# Altium integrated library Infineon_Microcontroller.IntLib: 721 symbols (part 3 of 66)
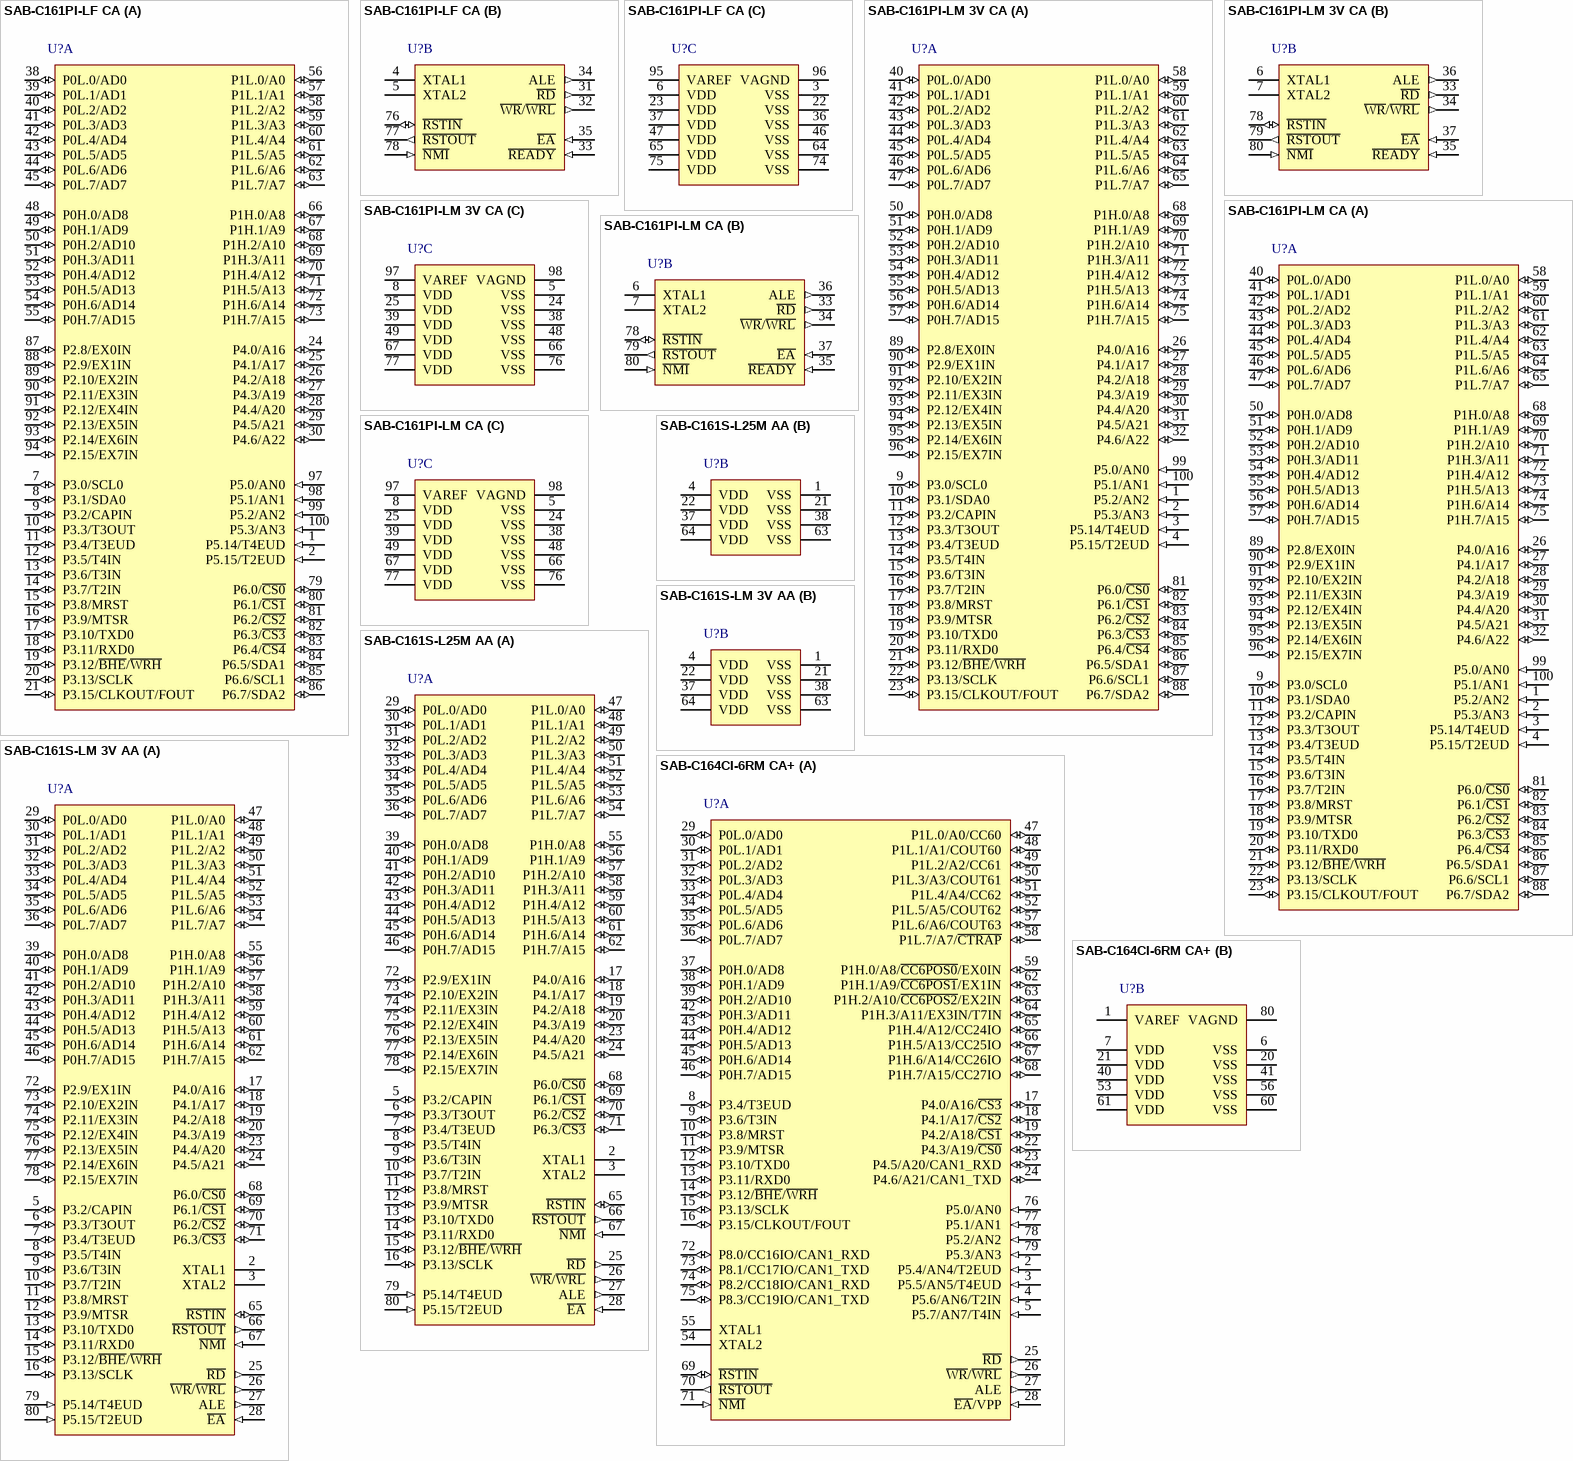
[diagram p120: symbols SAB-C161PI-LF CA to SAB-C164CI-6RM CA+]

## SAB-C161S-L25M AA
designator U?
25 MHz C166 MCU without Program Memory, 2 KByte SRAM, 5 V, 0 to 70 degC, PG-MQFP-80, Reel, Green; Manufacturer: Infineon; PartNumber: SAB-C161S-L25M AA; A / D input lines (incl. FADC): 0; Digital I/O Lines: 63; DSP functionality (e.g MDU/MAC): TRUE; I/O Operation Voltages: 5 V; Instruction width [bits]: 16; Max Clock Frequency: 25 MHz; Power Modes: 3; Serial I/O Interfaces: 2; SRAM (incl. Cache): 2 KByte; Timer / Counter: 5; Type of Memory: ROM less; Type of Serial I/O Interfaces: ASC(1), SSC(1); DatasheetVersion: Rev. 1.0; PackageVersion: V2.0, 05/2001; PackageReference: P-MQFP-80-7; PackageDescription: 80-Pin Plastic Metric Quad Flat Package, Body 14 x 14 mm, Pitch 0.65 mm; Supplier 1: Mouser; Supplier Part Number 1: 726-SABC161SL25MAA; Supplier 2: Digi-Key; Supplier Part Number 2: SAB-C161S-L25M AA-ND; CAN Nodes: 0; DMA Channels: 0; External Bus interface: TRUE; Green: TRUE; Halogen-free: TRUE; Number of ADC Modules: 0; Oscillator Watchdog: TRUE; Packing: Reel; Real Time Clock (RTC): TRUE; Timed I/O Pins (PWM-Ch,CAPCOM): 0; Watchdog Timer: TRUE; Mounting Technology: Surface Mount; ComponentLink1Description: Manufacturer URL; ComponentLink1URL: http://www.infineon.com/; ComponentLink2Description: Datasheet; ComponentLink2URL: http://www.infineon.com/dgdl/c161s_ds_v1.0_200311.pdf?folderId=db3a304412b407950112b43a56c8703a&fileId=db3a304412b407950112b43a5758703b; ComponentLink3Description: Package Specification; ComponentLink3URL: http://www.infineon.com/dgdl/c164ci_ds_v2.0_2001_05_1.pdf?folderId=db3a304412b407950112b408e8c90004&fileId=db3a304412b407950112b41e161331d0&sId=db3a30433d956bc3013d9b13f66314ac
footprint INF-P-MQFP-80-7_N (QFP, 80-Leads, Body 14x14mm, Pitch 0.65mm, IPC Medium Density)
footprint INF-P-MQFP-80-7_L (QFP, 80-Leads, Body 14x14mm, Pitch 0.65mm, IPC High Density)
footprint INF-P-MQFP-80-7_M (QFP, 80-Leads, Body 14x14mm, Pitch 0.65mm, IPC Low Density)
part A pins: 2 XTAL1 "Input to the oscillator amplifier and input to the internal clock generator", 3 XTAL2 "Output of the oscillator amplifier circuit.", 5 P3.2/CAPIN (io), 6 P3.3/T3OUT (io), 7 P3.4/T3EUD (io), 8 P3.5/T4IN (io), 9 P3.6/T3IN (io), 10 P3.7/T2IN (io), 11 P3.8/MRST (io), 12 P3.9/MTSR (io), 13 P3.10/TXD0 (io), 14 P3.11/RXD0 (io), 15 P3.12/~{BHE}/~{WRH} (io), 16 P3.13/SCLK (io), 17 P4.0/A16 (io), 18 P4.1/A17 (io), 19 P4.2/A18 (io), 20 P4.3/A19 (io), 23 P4.4/A20 (io), 24 P4.5/A21 (io), 25 ~{RD} (out) "External Memory Read Strobe. R\D\ is activated for every external instruction or data read access.", 26 ~{WR}/~{WRL} (out) "External Memory Write Strobe. In W\R\-mode this pin is activated for every external data write access. In W\R\L\-mode this pin is activated for low byte data write accesses on a 16-bit bus, and for every data write access on (See Datasheet)", 27 ALE (out) "Address Latch Enable Output. Can be used for latching the address into external memory or an address latch in the multiplexed bus modes.", 28 ~{EA} (in) "External Access Enable pin. A low level at this pin during and after Reset forces the C161K/O to begin instruction execution out of external memory. A high level forces execution out of the internal program memory. (See Datasheet)", 29 P0L.0/AD0 (io), 30 P0L.1/AD1 (io), 31 P0L.2/AD2 (io), 32 P0L.3/AD3 (io), 33 P0L.4/AD4 (io), 34 P0L.5/AD5 (io), 35 P0L.6/AD6 (io), 36 P0L.7/AD7 (io), 39 P0H.0/AD8 (io), 40 P0H.1/AD9 (io), 41 P0H.2/AD10 (io), 42 P0H.3/AD11 (io), 43 P0H.4/AD12 (io), 44 P0H.5/AD13 (io), 45 P0H.6/AD14 (io), 46 P0H.7/AD15 (io), 47 P1L.0/A0 (io), 48 P1L.1/A1 (io), 49 P1L.2/A2 (io), 50 P1L.3/A3 (io), 51 P1L.4/A4 (io), 52 P1L.5/A5 (io), 53 P1L.6/A6 (io), 54 P1L.7/A7 (io), 55 P1H.0/A8 (io), 56 P1H.1/A9 (io), 57 P1H.2/A10 (io), 58 P1H.3/A11 (io), 59 P1H.4/A12 (io), 60 P1H.5/A13 (io), 61 P1H.6/A14 (io), 62 P1H.7/A15 (io), 65 ~{RSTIN} (io) "Reset Input with Schmitt-Trigger characteristics. A low level at this pin while the oscillator is running resets the C161K/O. An internal pullup resistor permits power-on reset using only a capacitor connected to VSS. A (See Datasheet)", 66 ~{RSTOUT} (out) "Internal Reset Indication Output. This pin is set to a low level when the part is executing either a hardware-, a software- or a watchdog timer reset. R\S\T\O\U\T\ remains low until the EINIT (end of initialization) (See Datasheet)", 67 ~{NMI} (in) "Non-Maskable Interrupt Input. A high to low transition at this pin causes the CPU to vector to the NMI trap routine. When the PWRDN (power down) instruction is executed, the N\M\I\ pin must be low in order to force the (See Datasheet)", 68 P6.0/~{CS0} (io), 69 P6.1/~{CS1} (io), 70 P6.2/~{CS2} (io), 71 P6.3/~{CS3} (io), 72 P2.9/EX1IN (io), 73 P2.10/EX2IN (io), 74 P2.11/EX3IN (io), 75 P2.12/EX4IN (io), 76 P2.13/EX5IN (io), 77 P2.14/EX6IN (io), 78 P2.15/EX7IN (io), 79 P5.14/T4EUD (in), 80 P5.15/T2EUD (in)
part B pins: 1 VSS (power) "Digital Ground.", 4 VDD (power) "Digital Supply Voltage: + 5 V during normal operation and idle mode.+ 3.3 V during reduced supply operation and idle mode.>= 2.5 V during power down mode.", 21 VSS (power) "Digital Ground.", 22 VDD (power) "Digital Supply Voltage: + 5 V during normal operation and idle mode.+ 3.3 V during reduced supply operation and idle mode.>= 2.5 V during power down mode.", 37 VDD (power) "Digital Supply Voltage: + 5 V during normal operation and idle mode.+ 3.3 V during reduced supply operation and idle mode.>= 2.5 V during power down mode.", 38 VSS (power) "Digital Ground.", 63 VSS (power) "Digital Ground.", 64 VDD (power) "Digital Supply Voltage: + 5 V during normal operation and idle mode.+ 3.3 V during reduced supply operation and idle mode.>= 2.5 V during power down mode."

## SAB-C161S-LM 3V AA
designator U?
20 MHz C166 MCU without Program Memory, 2 KByte SRAM, 3.3 V, 0 to 70 degC, PG-MQFP-80, Reel, Green; Manufacturer: Infineon; PartNumber: SAB-C161S-LM 3V AA; A / D input lines (incl. FADC): 0; Digital I/O Lines: 63; DSP functionality (e.g MDU/MAC): TRUE; I/O Operation Voltages: 3.3 V; Instruction width [bits]: 16; Max Clock Frequency: 20 MHz; Power Modes: 3; Serial I/O Interfaces: 2; SRAM (incl. Cache): 2 KByte; Timer / Counter: 5; Type of Memory: ROM less; Type of Serial I/O Interfaces: ASC(1), SSC(1); DatasheetVersion: Rev. 1.0; PackageVersion: V2.0, 05/2001; PackageReference: P-MQFP-80-7; PackageDescription: 80-Pin Plastic Metric Quad Flat Package, Body 14 x 14 mm, Pitch 0.65 mm; Supplier 1: Digi-Key; Supplier Part Number 1: SAB-C161S-LM 3V AA-ND; CAN Nodes: 0; DMA Channels: 0; External Bus interface: TRUE; Green: TRUE; Halogen-free: TRUE; Number of ADC Modules: 0; Oscillator Watchdog: TRUE; Packing: Reel; Real Time Clock (RTC): TRUE; Timed I/O Pins (PWM-Ch,CAPCOM): 0; Watchdog Timer: TRUE; Mounting Technology: Surface Mount; ComponentLink1Description: Manufacturer URL; ComponentLink1URL: http://www.infineon.com/; ComponentLink2Description: Datasheet; ComponentLink2URL: http://www.infineon.com/dgdl/c161s_ds_v1.0_200311.pdf?folderId=db3a304412b407950112b41d58622ffd&fileId=db3a304412b407950112b41d58bb2ffe; ComponentLink3Description: Package Specification; ComponentLink3URL: http://www.infineon.com/dgdl/c164ci_ds_v2.0_2001_05_1.pdf?folderId=db3a304412b407950112b408e8c90004&fileId=db3a304412b407950112b41e161331d0&sId=db3a30433d956bc3013d9b13f66314ac
footprint INF-P-MQFP-80-7_N (QFP, 80-Leads, Body 14x14mm, Pitch 0.65mm, IPC Medium Density)
footprint INF-P-MQFP-80-7_L (QFP, 80-Leads, Body 14x14mm, Pitch 0.65mm, IPC High Density)
footprint INF-P-MQFP-80-7_M (QFP, 80-Leads, Body 14x14mm, Pitch 0.65mm, IPC Low Density)
part A pins: 2 XTAL1 "Input to the oscillator amplifier and input to the internal clock generator", 3 XTAL2 "Output of the oscillator amplifier circuit.", 5 P3.2/CAPIN (io), 6 P3.3/T3OUT (io), 7 P3.4/T3EUD (io), 8 P3.5/T4IN (io), 9 P3.6/T3IN (io), 10 P3.7/T2IN (io), 11 P3.8/MRST (io), 12 P3.9/MTSR (io), 13 P3.10/TXD0 (io), 14 P3.11/RXD0 (io), 15 P3.12/~{BHE}/~{WRH} (io), 16 P3.13/SCLK (io), 17 P4.0/A16 (io), 18 P4.1/A17 (io), 19 P4.2/A18 (io), 20 P4.3/A19 (io), 23 P4.4/A20 (io), 24 P4.5/A21 (io), 25 ~{RD} (out) "External Memory Read Strobe. R\D\ is activated for every external instruction or data read access.", 26 ~{WR}/~{WRL} (out) "External Memory Write Strobe. In W\R\-mode this pin is activated for every external data write access. In W\R\L\-mode this pin is activated for low byte data write accesses on a 16-bit bus, and for every data write access on (See Datasheet)", 27 ALE (out) "Address Latch Enable Output. Can be used for latching the address into external memory or an address latch in the multiplexed bus modes.", 28 ~{EA} (in) "External Access Enable pin. A low level at this pin during and after Reset forces the C161K/O to begin instruction execution out of external memory. A high level forces execution out of the internal program memory. (See Datasheet)", 29 P0L.0/AD0 (io), 30 P0L.1/AD1 (io), 31 P0L.2/AD2 (io), 32 P0L.3/AD3 (io), 33 P0L.4/AD4 (io), 34 P0L.5/AD5 (io), 35 P0L.6/AD6 (io), 36 P0L.7/AD7 (io), 39 P0H.0/AD8 (io), 40 P0H.1/AD9 (io), 41 P0H.2/AD10 (io), 42 P0H.3/AD11 (io), 43 P0H.4/AD12 (io), 44 P0H.5/AD13 (io), 45 P0H.6/AD14 (io), 46 P0H.7/AD15 (io), 47 P1L.0/A0 (io), 48 P1L.1/A1 (io), 49 P1L.2/A2 (io), 50 P1L.3/A3 (io), 51 P1L.4/A4 (io), 52 P1L.5/A5 (io), 53 P1L.6/A6 (io), 54 P1L.7/A7 (io), 55 P1H.0/A8 (io), 56 P1H.1/A9 (io), 57 P1H.2/A10 (io), 58 P1H.3/A11 (io), 59 P1H.4/A12 (io), 60 P1H.5/A13 (io), 61 P1H.6/A14 (io), 62 P1H.7/A15 (io), 65 ~{RSTIN} (io) "Reset Input with Schmitt-Trigger characteristics. A low level at this pin while the oscillator is running resets the C161K/O. An internal pullup resistor permits power-on reset using only a capacitor connected to VSS. A (See Datasheet)", 66 ~{RSTOUT} (out) "Internal Reset Indication Output. This pin is set to a low level when the part is executing either a hardware-, a software- or a watchdog timer reset. R\S\T\O\U\T\ remains low until the EINIT (end of initialization) (See Datasheet)", 67 ~{NMI} (in) "Non-Maskable Interrupt Input. A high to low transition at this pin causes the CPU to vector to the NMI trap routine. When the PWRDN (power down) instruction is executed, the N\M\I\ pin must be low in order to force the (See Datasheet)", 68 P6.0/~{CS0} (io), 69 P6.1/~{CS1} (io), 70 P6.2/~{CS2} (io), 71 P6.3/~{CS3} (io), 72 P2.9/EX1IN (io), 73 P2.10/EX2IN (io), 74 P2.11/EX3IN (io), 75 P2.12/EX4IN (io), 76 P2.13/EX5IN (io), 77 P2.14/EX6IN (io), 78 P2.15/EX7IN (io), 79 P5.14/T4EUD (in), 80 P5.15/T2EUD (in)
part B pins: 1 VSS (power) "Digital Ground.", 4 VDD (power) "Digital Supply Voltage: + 5 V during normal operation and idle mode.+ 3.3 V during reduced supply operation and idle mode.>= 2.5 V during power down mode.", 21 VSS (power) "Digital Ground.", 22 VDD (power) "Digital Supply Voltage: + 5 V during normal operation and idle mode.+ 3.3 V during reduced supply operation and idle mode.>= 2.5 V during power down mode.", 37 VDD (power) "Digital Supply Voltage: + 5 V during normal operation and idle mode.+ 3.3 V during reduced supply operation and idle mode.>= 2.5 V during power down mode.", 38 VSS (power) "Digital Ground.", 63 VSS (power) "Digital Ground.", 64 VDD (power) "Digital Supply Voltage: + 5 V during normal operation and idle mode.+ 3.3 V during reduced supply operation and idle mode.>= 2.5 V during power down mode."

## SAB-C164CI-6RM CA+
designator U?
20 MHz C166 MCU with 48 KByte Program Memory, 4 KByte SRAM, 5 V, 0 to 70 degC, PG-MQFP-80, Green; Manufacturer: Infineon; PartNumber: SAB-C164CI-6RM CA+; A / D input lines (incl. FADC): 8; CAN Nodes: 1; Digital I/O Lines: 59; DMA Channels: 0; DSP functionality (e.g MDU/MAC): TRUE; I/O Operation Voltages: 5 V; Instruction width [bits]: 16; Max Clock Frequency: 20 MHz; Power Modes: 3; Serial I/O Interfaces: 2; SRAM (incl. Cache): 4 KByte; Timed I/O Pins (PWM-Ch,CAPCOM): 12; Timer / Counter: 5; Type of Memory: ROM; Type of Serial I/O Interfaces: ASC(1), SSC(1); DatasheetVersion: Rev. 2.0; PackageVersion: V2.0, 05/2001; PackageReference: P-MQFP-80-7; PackageDescription: 80-Pin Plastic Metric Quad Flat Package, Body 14 x 14 mm, Pitch 0.65 mm; External Bus interface: TRUE; Green: TRUE; Number of ADC Modules: 1; Oscillator Watchdog: TRUE; Program Memory: 48 KByte; Real Time Clock (RTC): TRUE; Watchdog Timer: TRUE; Mounting Technology: Surface Mount; ComponentLink1Description: Manufacturer URL; ComponentLink1URL: http://www.infineon.com/; ComponentLink2Description: Datasheet; ComponentLink2URL: http://www.infineon.com/dgdl/c164ci_ds_v2.0_2001_05_1.pdf?folderId=db3a304412b407950112b408e8c90004&fileId=db3a304412b407950112b41e161331d0; ComponentLink3Description: Package Specification; ComponentLink3URL: http://www.infineon.com/dgdl/c164ci_ds_v2.0_2001_05_1.pdf?folderId=db3a304412b407950112b408e8c90004&fileId=db3a304412b407950112b41e161331d0&sId=db3a30433d956bc3013d9b13f66314ac
footprint INF-P-MQFP-80-7_N (QFP, 80-Leads, Body 14x14mm, Pitch 0.65mm, IPC Medium Density)
footprint INF-P-MQFP-80-7_L (QFP, 80-Leads, Body 14x14mm, Pitch 0.65mm, IPC High Density)
footprint INF-P-MQFP-80-7_M (QFP, 80-Leads, Body 14x14mm, Pitch 0.65mm, IPC Low Density)
part A pins: 2 P5.4/AN4/T2EUD (in), 3 P5.5/AN5/T4EUD (in), 4 P5.6/AN6/T2IN (in), 5 P5.7/AN7/T4IN (in), 8 P3.4/T3EUD (io), 9 P3.6/T3IN (io), 10 P3.8/MRST (io), 11 P3.9/MTSR (io), 12 P3.10/TXD0 (io), 13 P3.11/RXD0 (io), 14 P3.12/~{BHE}/~{WRH} (io), 15 P3.13/SCLK (io), 16 P3.15/CLKOUT/FOUT (io), 17 P4.0/A16/~{CS3} (io), 18 P4.1/A17/~{CS2} (io), 19 P4.2/A18/~{CS1} (io), 22 P4.3/A19/~{CS0} (io), 23 P4.5/A20/CAN1_RXD (io), 24 P4.6/A21/CAN1_TXD (io), 25 ~{RD} (out) "External Memory Read Strobe. R\D\ is activated for every external instruction or data read access.", 26 ~{WR}/~{WRL} (out) "External Memory Write Strobe. In W\R\-mode this pin is activated for every external data write access. In W\R\L\-mode this pin is activated for low byte data write accesses on a 16-bit bus, and for every data write access on (See Datasheet)", 27 ALE (out) "Address Latch Enable Output. Can be used for latching the address into external memory or an address latch in the multiplexed bus modes.", 28 ~{EA}/VPP (in), 29 P0L.0/AD0 (io), 30 P0L.1/AD1 (io), 31 P0L.2/AD2 (io), 32 P0L.3/AD3 (io), 33 P0L.4/AD4 (io), 34 P0L.5/AD5 (io), 35 P0L.6/AD6 (io), 36 P0L.7/AD7 (io), 37 P0H.0/AD8 (io), 38 P0H.1/AD9 (io), 39 P0H.2/AD10 (io), 42 P0H.3/AD11 (io), 43 P0H.4/AD12 (io), 44 P0H.5/AD13 (io), 45 P0H.6/AD14 (io), 46 P0H.7/AD15 (io), 47 P1L.0/A0/CC60 (io), 48 P1L.1/A1/COUT60 (io), 49 P1L.2/A2/CC61 (io), 50 P1L.3/A3/COUT61 (io), 51 P1L.4/A4/CC62 (io), 52 P1L.5/A5/COUT62 (io), 54 XTAL2 "Output of the oscillator amplifier circuit.", 55 XTAL1 "Input to the oscillator amplifier and input to the internal clock generator", 57 P1L.6/A6/COUT63 (io), 58 P1L.7/A7/~{CTRAP} (io), 59 P1H.0/A8/~{CC6POS0}/EX0IN (io), 62 P1H.1/A9/~{CC6POS1}/EX1IN (io), 63 P1H.2/A10/~{CC6POS2}/EX2IN (io), 64 P1H.3/A11/EX3IN/T7IN (io), 65 P1H.4/A12/CC24IO (io), 66 P1H.5/A13/CC25IO (io), 67 P1H.6/A14/CC26IO (io), 68 P1H.7/A15/CC27IO (io), 69 ~{RSTIN} (io) "Reset Input with Schmitt-Trigger characteristics. A low level at this pin while the oscillator is running resets the C164CI. An internal pullup resistor permits power-on reset using only a capacitor connected to VSS. A spike (See Datasheet)", 70 ~{RSTOUT} (out) "Internal Reset Indication Output. This pin is set to a low level when the part is executing either a hardware-, a software- or a watchdog timer reset. R\S\T\O\U\T\ remains low until the EINIT (end of initialization) (See Datasheet)", 71 ~{NMI} (in) "Non-Maskable Interrupt Input. A high to low transition at this pin causes the CPU to vector to the NMI trap routine. When the PWRDN (power down) instruction is executed, the N\M\I\ pin must be low in order to force the (See Datasheet)", 72 P8.0/CC16IO/CAN1_RXD (io), 73 P8.1/CC17IO/CAN1_TXD (io), 74 P8.2/CC18IO/CAN1_RXD (io), 75 P8.3/CC19IO/CAN1_TXD (io), 76 P5.0/AN0 (in), 77 P5.1/AN1 (in), 78 P5.2/AN2 (in), 79 P5.3/AN3 (in)
part B pins: 1 VAREF (power) "Reference voltage for the A/D converter.", 6 VSS (power) "Digital Ground.", 7 VDD (power) "Digital Supply Voltage: +5 V during normal operation and idle mode. >=2.5 V during power down mode.", 20 VSS (power) "Digital Ground.", 21 VDD (power) "Digital Supply Voltage: +5 V during normal operation and idle mode. >=2.5 V during power down mode.", 40 VDD (power) "Digital Supply Voltage: +5 V during normal operation and idle mode. >=2.5 V during power down mode.", 41 VSS (power) "Digital Ground.", 53 VDD (power) "Digital Supply Voltage: +5 V during normal operation and idle mode. >=2.5 V during power down mode.", 56 VSS (power) "Digital Ground.", 60 VSS (power) "Digital Ground.", 61 VDD (power) "Digital Supply Voltage: +5 V during normal operation and idle mode. >=2.5 V during power down mode.", 80 VAGND (power) "Reference ground for the A/D converter."

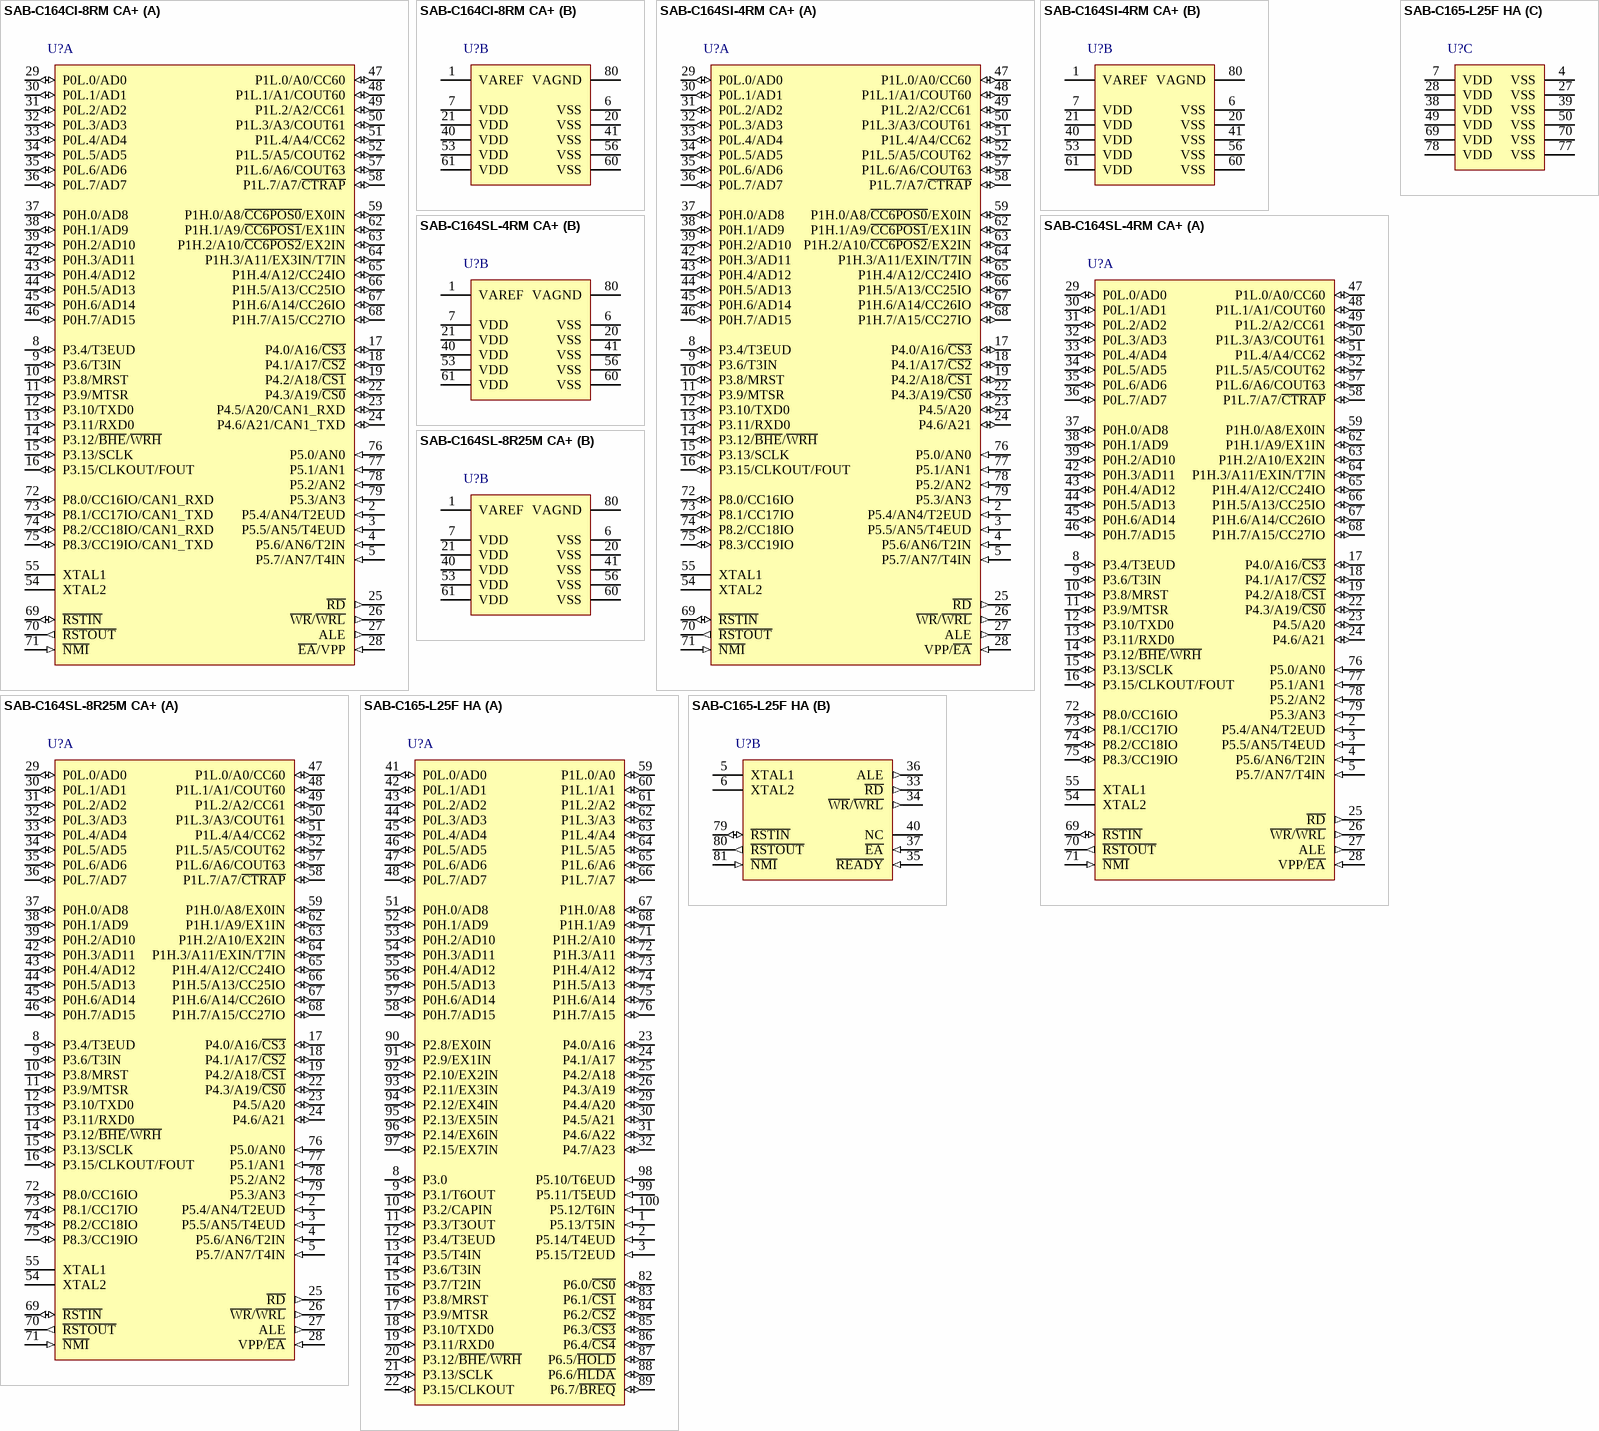
[diagram p3: symbols SAB-C164CI-8RM CA+ to SAB-C165-L25F HA]

## SAB-C164CI-8RM CA+
designator U?
20 MHz C166 MCU with 64 KByte Program Memory, 4 KByte SRAM, 5 V, 0 to 70 degC, PG-MQFP-80, Green; Manufacturer: Infineon; PartNumber: SAB-C164CI-8RM CA+; A / D input lines (incl. FADC): 8; CAN Nodes: 1; Digital I/O Lines: 59; DMA Channels: 0; DSP functionality (e.g MDU/MAC): TRUE; I/O Operation Voltages: 5 V; Instruction width [bits]: 16; Max Clock Frequency: 20 MHz; Power Modes: 3; Serial I/O Interfaces: 2; SRAM (incl. Cache): 4 KByte; Timed I/O Pins (PWM-Ch,CAPCOM): 12; Timer / Counter: 5; Type of Memory: ROM; Type of Serial I/O Interfaces: ASC(1), SSC(1); DatasheetVersion: Rev. 2.0; PackageVersion: V2.0, 05/2001; PackageReference: P-MQFP-80-7; PackageDescription: 80-Pin Plastic Metric Quad Flat Package, Body 14 x 14 mm, Pitch 0.65 mm; External Bus interface: TRUE; Green: TRUE; Number of ADC Modules: 1; Oscillator Watchdog: TRUE; Program Memory: 64 KByte; Real Time Clock (RTC): TRUE; Watchdog Timer: TRUE; Mounting Technology: Surface Mount; ComponentLink1Description: Manufacturer URL; ComponentLink1URL: http://www.infineon.com/; ComponentLink2Description: Datasheet; ComponentLink2URL: http://www.infineon.com/dgdl/c164ci_ds_v2.0_2001_05_1.pdf?folderId=db3a304412b407950112b408e8c90004&fileId=db3a304412b407950112b41e161331d0; ComponentLink3Description: Package Specification; ComponentLink3URL: http://www.infineon.com/dgdl/c164ci_ds_v2.0_2001_05_1.pdf?folderId=db3a304412b407950112b408e8c90004&fileId=db3a304412b407950112b41e161331d0&sId=db3a30433d956bc3013d9b13f66314ac
footprint INF-P-MQFP-80-7_N (QFP, 80-Leads, Body 14x14mm, Pitch 0.65mm, IPC Medium Density)
footprint INF-P-MQFP-80-7_L (QFP, 80-Leads, Body 14x14mm, Pitch 0.65mm, IPC High Density)
footprint INF-P-MQFP-80-7_M (QFP, 80-Leads, Body 14x14mm, Pitch 0.65mm, IPC Low Density)
part A pins: 2 P5.4/AN4/T2EUD (in), 3 P5.5/AN5/T4EUD (in), 4 P5.6/AN6/T2IN (in), 5 P5.7/AN7/T4IN (in), 8 P3.4/T3EUD (io), 9 P3.6/T3IN (io), 10 P3.8/MRST (io), 11 P3.9/MTSR (io), 12 P3.10/TXD0 (io), 13 P3.11/RXD0 (io), 14 P3.12/~{BHE}/~{WRH} (io), 15 P3.13/SCLK (io), 16 P3.15/CLKOUT/FOUT (io), 17 P4.0/A16/~{CS3} (io), 18 P4.1/A17/~{CS2} (io), 19 P4.2/A18/~{CS1} (io), 22 P4.3/A19/~{CS0} (io), 23 P4.5/A20/CAN1_RXD (io), 24 P4.6/A21/CAN1_TXD (io), 25 ~{RD} (out) "External Memory Read Strobe. R\D\ is activated for every external instruction or data read access.", 26 ~{WR}/~{WRL} (out) "External Memory Write Strobe. In W\R\-mode this pin is activated for every external data write access. In W\R\L\-mode this pin is activated for low byte data write accesses on a 16-bit bus, and for every data write access on (See Datasheet)", 27 ALE (out) "Address Latch Enable Output. Can be used for latching the address into external memory or an address latch in the multiplexed bus modes.", 28 ~{EA}/VPP (in), 29 P0L.0/AD0 (io), 30 P0L.1/AD1 (io), 31 P0L.2/AD2 (io), 32 P0L.3/AD3 (io), 33 P0L.4/AD4 (io), 34 P0L.5/AD5 (io), 35 P0L.6/AD6 (io), 36 P0L.7/AD7 (io), 37 P0H.0/AD8 (io), 38 P0H.1/AD9 (io), 39 P0H.2/AD10 (io), 42 P0H.3/AD11 (io), 43 P0H.4/AD12 (io), 44 P0H.5/AD13 (io), 45 P0H.6/AD14 (io), 46 P0H.7/AD15 (io), 47 P1L.0/A0/CC60 (io), 48 P1L.1/A1/COUT60 (io), 49 P1L.2/A2/CC61 (io), 50 P1L.3/A3/COUT61 (io), 51 P1L.4/A4/CC62 (io), 52 P1L.5/A5/COUT62 (io), 54 XTAL2 "Output of the oscillator amplifier circuit.", 55 XTAL1 "Input to the oscillator amplifier and input to the internal clock generator", 57 P1L.6/A6/COUT63 (io), 58 P1L.7/A7/~{CTRAP} (io), 59 P1H.0/A8/~{CC6POS0}/EX0IN (io), 62 P1H.1/A9/~{CC6POS1}/EX1IN (io), 63 P1H.2/A10/~{CC6POS2}/EX2IN (io), 64 P1H.3/A11/EX3IN/T7IN (io), 65 P1H.4/A12/CC24IO (io), 66 P1H.5/A13/CC25IO (io), 67 P1H.6/A14/CC26IO (io), 68 P1H.7/A15/CC27IO (io), 69 ~{RSTIN} (io) "Reset Input with Schmitt-Trigger characteristics. A low level at this pin while the oscillator is running resets the C164CI. An internal pullup resistor permits power-on reset using only a capacitor connected to VSS. A spike (See Datasheet)", 70 ~{RSTOUT} (out) "Internal Reset Indication Output. This pin is set to a low level when the part is executing either a hardware-, a software- or a watchdog timer reset. R\S\T\O\U\T\ remains low until the EINIT (end of initialization) (See Datasheet)", 71 ~{NMI} (in) "Non-Maskable Interrupt Input. A high to low transition at this pin causes the CPU to vector to the NMI trap routine. When the PWRDN (power down) instruction is executed, the N\M\I\ pin must be low in order to force the (See Datasheet)", 72 P8.0/CC16IO/CAN1_RXD (io), 73 P8.1/CC17IO/CAN1_TXD (io), 74 P8.2/CC18IO/CAN1_RXD (io), 75 P8.3/CC19IO/CAN1_TXD (io), 76 P5.0/AN0 (in), 77 P5.1/AN1 (in), 78 P5.2/AN2 (in), 79 P5.3/AN3 (in)
part B pins: 1 VAREF (power) "Reference voltage for the A/D converter.", 6 VSS (power) "Digital Ground.", 7 VDD (power) "Digital Supply Voltage: +5 V during normal operation and idle mode. >=2.5 V during power down mode.", 20 VSS (power) "Digital Ground.", 21 VDD (power) "Digital Supply Voltage: +5 V during normal operation and idle mode. >=2.5 V during power down mode.", 40 VDD (power) "Digital Supply Voltage: +5 V during normal operation and idle mode. >=2.5 V during power down mode.", 41 VSS (power) "Digital Ground.", 53 VDD (power) "Digital Supply Voltage: +5 V during normal operation and idle mode. >=2.5 V during power down mode.", 56 VSS (power) "Digital Ground.", 60 VSS (power) "Digital Ground.", 61 VDD (power) "Digital Supply Voltage: +5 V during normal operation and idle mode. >=2.5 V during power down mode.", 80 VAGND (power) "Reference ground for the A/D converter."

## SAB-C164SI-4RM CA+
designator U?
20 MHz C166 MCU with 32 KByte Program Memory, 4 KByte SRAM, 5 V, 0 to 70 degC, PG-MQFP-80, Green; Manufacturer: Infineon; PartNumber: SAB-C164SI-4RM CA+; A / D input lines (incl. FADC): 8; CAN Nodes: 0; Digital I/O Lines: 59; DSP functionality (e.g MDU/MAC): TRUE; I/O Operation Voltages: 5 V; Instruction width [bits]: 16; Max Clock Frequency: 20 MHz; Number of ADC Modules: 1; Power Modes: 3; Serial I/O Interfaces: 2; SRAM (incl. Cache): 4 KByte; Timed I/O Pins (PWM-Ch,CAPCOM): 12; Timer / Counter: 5; Type of Memory: ROM; Type of Serial I/O Interfaces: ASC(1), SSC(1); DatasheetVersion: Rev. 2.0; PackageVersion: V2.0, 05/2001; PackageReference: P-MQFP-80-7; PackageDescription: 80-Pin Plastic Metric Quad Flat Package, Body 14 x 14 mm, Pitch 0.65 mm; DMA Channels: 0; External Bus interface: TRUE; Green: TRUE; Oscillator Watchdog: TRUE; Program Memory: 32 KByte; Real Time Clock (RTC): TRUE; Watchdog Timer: TRUE; Mounting Technology: Surface Mount; ComponentLink1Description: Manufacturer URL; ComponentLink1URL: http://www.infineon.com/; ComponentLink2Description: Datasheet; ComponentLink2URL: http://www.infineon.com/dgdl/c164ci_ds_v2.0_2001_05_1.pdf?folderId=db3a304412b407950112b408e8c90004&fileId=db3a304412b407950112b41e161331d0; ComponentLink3Description: Package Specification; ComponentLink3URL: http://www.infineon.com/dgdl/c164ci_ds_v2.0_2001_05_1.pdf?folderId=db3a304412b407950112b408e8c90004&fileId=db3a304412b407950112b41e161331d0&sId=db3a30433d956bc3013d9b13f66314ac
footprint INF-P-MQFP-80-7_N (QFP, 80-Leads, Body 14x14mm, Pitch 0.65mm, IPC Medium Density)
footprint INF-P-MQFP-80-7_L (QFP, 80-Leads, Body 14x14mm, Pitch 0.65mm, IPC High Density)
footprint INF-P-MQFP-80-7_M (QFP, 80-Leads, Body 14x14mm, Pitch 0.65mm, IPC Low Density)
part A pins: 2 P5.4/AN4/T2EUD (in), 3 P5.5/AN5/T4EUD (in), 4 P5.6/AN6/T2IN (in), 5 P5.7/AN7/T4IN (in), 8 P3.4/T3EUD (io), 9 P3.6/T3IN (io), 10 P3.8/MRST (io), 11 P3.9/MTSR (io), 12 P3.10/TXD0 (io), 13 P3.11/RXD0 (io), 14 P3.12/~{BHE}/~{WRH} (io), 15 P3.13/SCLK (io), 16 P3.15/CLKOUT/FOUT (io), 17 P4.0/A16/~{CS3} (io), 18 P4.1/A17/~{CS2} (io), 19 P4.2/A18/~{CS1} (io), 22 P4.3/A19/~{CS0} (io), 23 P4.5/A20 (io), 24 P4.6/A21 (io), 25 ~{RD} (out) "External Memory Read Strobe. R\D\ is activated for every external instruction or data read access.", 26 ~{WR}/~{WRL} (out) "External Memory Write Strobe. In W\R\-mode this pin is activated for every external data write access. In W\R\L\-mode this pin is activated for low byte data write accesses on a 16-bit bus, and for every data write access on (See Datasheet)", 27 ALE (out) "Address Latch Enable Output. Can be used for latching the address into external memory or an address latch in the multiplexed bus modes.", 28 VPP/~{EA} (in) "External Access Enable pin.A low level at this pin during and after Reset forces the C164CI to latch the configuration from PORT0 and pin R\D\, and to begin instruction execution out of external memory.A high level forces (See Datasheet)", 29 P0L.0/AD0 (io), 30 P0L.1/AD1 (io), 31 P0L.2/AD2 (io), 32 P0L.3/AD3 (io), 33 P0L.4/AD4 (io), 34 P0L.5/AD5 (io), 35 P0L.6/AD6 (io), 36 P0L.7/AD7 (io), 37 P0H.0/AD8 (io), 38 P0H.1/AD9 (io), 39 P0H.2/AD10 (io), 42 P0H.3/AD11 (io), 43 P0H.4/AD12 (io), 44 P0H.5/AD13 (io), 45 P0H.6/AD14 (io), 46 P0H.7/AD15 (io), 47 P1L.0/A0/CC60 (io), 48 P1L.1/A1/COUT60 (io), 49 P1L.2/A2/CC61 (io), 50 P1L.3/A3/COUT61 (io), 51 P1L.4/A4/CC62 (io), 52 P1L.5/A5/COUT62 (io), 54 XTAL2 "Output of the oscillator amplifier circuit.", 55 XTAL1 "Input to the oscillator amplifier and input to the internal clock generator", 57 P1L.6/A6/COUT63 (io), 58 P1L.7/A7/~{CTRAP} (io), 59 P1H.0/A8/~{CC6POS0}/EX0IN (io), 62 P1H.1/A9/~{CC6POS1}/EX1IN (io), 63 P1H.2/A10/~{CC6POS2}/EX2IN (io), 64 P1H.3/A11/EXIN/T7IN (io), 65 P1H.4/A12/CC24IO (io), 66 P1H.5/A13/CC25IO (io), 67 P1H.6/A14/CC26IO (io), 68 P1H.7/A15/CC27IO (io), 69 ~{RSTIN} (io) "Reset Input with Schmitt-Trigger characteristics. A low level at this pin while the oscillator is running resets the C164CI. An internal pullup resistor permits power-on reset using only a capacitor connected to VSS.", 70 ~{RSTOUT} (out) "Internal Reset Indication Output. This pin is set to a low level when the part is executing either a hardware-, a software- or a watchdog timer reset. R\S\T\O\U\T\ remains low until the EINIT (end of initialization) (See Datasheet)", 71 ~{NMI} (in) "Non-Maskable Interrupt Input. A high to low transition at this pin causes the CPU to vector to the NMI trap routine. When the PWRDN (power down) instruction is executed, the N\M\I\ pin must be low in order to force the (See Datasheet)", 72 P8.0/CC16IO (io), 73 P8.1/CC17IO (io), 74 P8.2/CC18IO (io), 75 P8.3/CC19IO (io), 76 P5.0/AN0 (in), 77 P5.1/AN1 (in), 78 P5.2/AN2 (in), 79 P5.3/AN3 (in)
part B pins: 1 VAREF (power) "Reference voltage for the A/D converter.", 6 VSS (power) "Digital Ground.", 7 VDD (power) "Digital Supply Voltage: +5 V during normal operation and idle mode. >=2.5 V during power down mode.", 20 VSS (power) "Digital Ground.", 21 VDD (power) "Digital Supply Voltage: +5 V during normal operation and idle mode. >=2.5 V during power down mode.", 40 VDD (power) "Digital Supply Voltage: +5 V during normal operation and idle mode. >=2.5 V during power down mode.", 41 VSS (power) "Digital Ground.", 53 VDD (power) "Digital Supply Voltage: +5 V during normal operation and idle mode. >=2.5 V during power down mode.", 56 VSS (power) "Digital Ground.", 60 VSS (power) "Digital Ground.", 61 VDD (power) "Digital Supply Voltage: +5 V during normal operation and idle mode. >=2.5 V during power down mode.", 80 VAGND (power) "Reference ground for the A/D converter."

## SAB-C164SL-4RM CA+
designator U?
20 MHz C166 MCU with 32 KByte Program Memory, 4 KByte SRAM, 5 V, 0 to 70 degC, PG-MQFP-80, Green; Manufacturer: Infineon; PartNumber: SAB-C164SL-4RM CA+; A / D input lines (incl. FADC): 8; CAN Nodes: 0; Digital I/O Lines: 59; DSP functionality (e.g MDU/MAC): TRUE; I/O Operation Voltages: 5 V; Instruction width [bits]: 16; Max Clock Frequency: 20 MHz; Number of ADC Modules: 1; Power Modes: 3; Serial I/O Interfaces: 2; SRAM (incl. Cache): 4 KByte; Timed I/O Pins (PWM-Ch,CAPCOM): 12; Timer / Counter: 5; Type of Memory: ROM; Type of Serial I/O Interfaces: ASC(1), SSC(1); DatasheetVersion: Rev. 2.0; PackageVersion: V2.0, 05/2001; PackageReference: P-MQFP-80-7; PackageDescription: 80-Pin Plastic Metric Quad Flat Package, Body 14 x 14 mm, Pitch 0.65 mm; DMA Channels: 0; External Bus interface: TRUE; Green: TRUE; Oscillator Watchdog: TRUE; Program Memory: 32 KByte; Real Time Clock (RTC): TRUE; Watchdog Timer: TRUE; Mounting Technology: Surface Mount; ComponentLink1Description: Manufacturer URL; ComponentLink1URL: http://www.infineon.com/; ComponentLink2Description: Datasheet; ComponentLink2URL: http://www.infineon.com/dgdl/c164ci_ds_v2.0_2001_05_1.pdf?folderId=db3a304412b407950112b408e8c90004&fileId=db3a304412b407950112b41e161331d0; ComponentLink3Description: Package Specification; ComponentLink3URL: http://www.infineon.com/dgdl/c164ci_ds_v2.0_2001_05_1.pdf?folderId=db3a304412b407950112b408e8c90004&fileId=db3a304412b407950112b41e161331d0&sId=db3a30433d956bc3013d9b13f66314ac
footprint INF-P-MQFP-80-7_N (QFP, 80-Leads, Body 14x14mm, Pitch 0.65mm, IPC Medium Density)
footprint INF-P-MQFP-80-7_L (QFP, 80-Leads, Body 14x14mm, Pitch 0.65mm, IPC High Density)
footprint INF-P-MQFP-80-7_M (QFP, 80-Leads, Body 14x14mm, Pitch 0.65mm, IPC Low Density)
part A pins: 2 P5.4/AN4/T2EUD (in), 3 P5.5/AN5/T4EUD (in), 4 P5.6/AN6/T2IN (in), 5 P5.7/AN7/T4IN (in), 8 P3.4/T3EUD (io), 9 P3.6/T3IN (io), 10 P3.8/MRST (io), 11 P3.9/MTSR (io), 12 P3.10/TXD0 (io), 13 P3.11/RXD0 (io), 14 P3.12/~{BHE}/~{WRH} (io), 15 P3.13/SCLK (io), 16 P3.15/CLKOUT/FOUT (io), 17 P4.0/A16/~{CS3} (io), 18 P4.1/A17/~{CS2} (io), 19 P4.2/A18/~{CS1} (io), 22 P4.3/A19/~{CS0} (io), 23 P4.5/A20 (io), 24 P4.6/A21 (io), 25 ~{RD} (out) "External Memory Read Strobe. R\D\ is activated for every external instruction or data read access.", 26 ~{WR}/~{WRL} (out) "External Memory Write Strobe. In W\R\-mode this pin is activated for every external data write access. In W\R\L\-mode this pin is activated for low byte data write accesses on a 16-bit bus, and for every data write access on (See Datasheet)", 27 ALE (out) "Address Latch Enable Output. Can be used for latching the address into external memory or an address latch in the multiplexed bus modes.", 28 VPP/~{EA} (in) "External Access Enable pin.A low level at this pin during and after Reset forces the C164CI to latch the configuration from PORT0 and pin R\D\, and to begin instruction execution out of external memory.A high level forces (See Datasheet)", 29 P0L.0/AD0 (io), 30 P0L.1/AD1 (io), 31 P0L.2/AD2 (io), 32 P0L.3/AD3 (io), 33 P0L.4/AD4 (io), 34 P0L.5/AD5 (io), 35 P0L.6/AD6 (io), 36 P0L.7/AD7 (io), 37 P0H.0/AD8 (io), 38 P0H.1/AD9 (io), 39 P0H.2/AD10 (io), 42 P0H.3/AD11 (io), 43 P0H.4/AD12 (io), 44 P0H.5/AD13 (io), 45 P0H.6/AD14 (io), 46 P0H.7/AD15 (io), 47 P1L.0/A0/CC60 (io), 48 P1L.1/A1/COUT60 (io), 49 P1L.2/A2/CC61 (io), 50 P1L.3/A3/COUT61 (io), 51 P1L.4/A4/CC62 (io), 52 P1L.5/A5/COUT62 (io), 54 XTAL2 "Output of the oscillator amplifier circuit.", 55 XTAL1 "Input to the oscillator amplifier and input to the internal clock generator", 57 P1L.6/A6/COUT63 (io), 58 P1L.7/A7/~{CTRAP} (io), 59 P1H.0/A8/EX0IN (io), 62 P1H.1/A9/EX1IN (io), 63 P1H.2/A10/EX2IN (io), 64 P1H.3/A11/EXIN/T7IN (io), 65 P1H.4/A12/CC24IO (io), 66 P1H.5/A13/CC25IO (io), 67 P1H.6/A14/CC26IO (io), 68 P1H.7/A15/CC27IO (io), 69 ~{RSTIN} (io) "Reset Input with Schmitt-Trigger characteristics. A low level at this pin while the oscillator is running resets the C164CI. An internal pullup resistor permits power-on reset using only a capacitor connected to VSS.", 70 ~{RSTOUT} (out) "Internal Reset Indication Output. This pin is set to a low level when the part is executing either a hardware-, a software- or a watchdog timer reset. R\S\T\O\U\T\ remains low until the EINIT (end of initialization) (See Datasheet)", 71 ~{NMI} (in) "Non-Maskable Interrupt Input. A high to low transition at this pin causes the CPU to vector to the NMI trap routine. When the PWRDN (power down) instruction is executed, the N\M\I\ pin must be low in order to force the (See Datasheet)", 72 P8.0/CC16IO (io), 73 P8.1/CC17IO (io), 74 P8.2/CC18IO (io), 75 P8.3/CC19IO (io), 76 P5.0/AN0 (in), 77 P5.1/AN1 (in), 78 P5.2/AN2 (in), 79 P5.3/AN3 (in)
part B pins: 1 VAREF (power) "Reference voltage for the A/D converter.", 6 VSS (power) "Digital Ground.", 7 VDD (power) "Digital Supply Voltage: +5 V during normal operation and idle mode. =2.5 V during power down mode.", 20 VSS (power) "Digital Ground.", 21 VDD (power) "Digital Supply Voltage: +5 V during normal operation and idle mode. =2.5 V during power down mode.", 40 VDD (power) "Digital Supply Voltage: +5 V during normal operation and idle mode. =2.5 V during power down mode.", 41 VSS (power) "Digital Ground.", 53 VDD (power) "Digital Supply Voltage: +5 V during normal operation and idle mode. =2.5 V during power down mode.", 56 VSS (power) "Digital Ground.", 60 VSS (power) "Digital Ground.", 61 VDD (power) "Digital Supply Voltage: +5 V during normal operation and idle mode. =2.5 V during power down mode.", 80 VAGND (power) "Reference ground for the A/D converter."

## SAB-C164SL-8R25M CA+
designator U?
25 MHz C166 MCU with 64 KByte Program Memory, 4 KByte SRAM, 5 V, 0 to 70 degC, PG-MQFP-80, Green; Manufacturer: Infineon; PartNumber: SAB-C164SL-8R25M CA+; A / D input lines (incl. FADC): 8; CAN Nodes: 0; Digital I/O Lines: 59; DSP functionality (e.g MDU/MAC): TRUE; I/O Operation Voltages: 5 V; Instruction width [bits]: 16; Max Clock Frequency: 25 MHz; Number of ADC Modules: 1; Power Modes: 3; Serial I/O Interfaces: 2; SRAM (incl. Cache): 4 KByte; Timed I/O Pins (PWM-Ch,CAPCOM): 12; Timer / Counter: 5; Type of Memory: ROM; Type of Serial I/O Interfaces: ASC(1), SSC(1); DatasheetVersion: Rev. 2.0; PackageVersion: V2.0, 05/2001; PackageReference: P-MQFP-80-7; PackageDescription: 80-Pin Plastic Metric Quad Flat Package, Body 14 x 14 mm, Pitch 0.65 mm; DMA Channels: 0; External Bus interface: TRUE; Green: TRUE; Oscillator Watchdog: TRUE; Program Memory: 64 KByte; Real Time Clock (RTC): TRUE; Watchdog Timer: TRUE; Mounting Technology: Surface Mount; ComponentLink1Description: Manufacturer URL; ComponentLink1URL: http://www.infineon.com/; ComponentLink2Description: Datasheet; ComponentLink2URL: http://www.infineon.com/dgdl/c164ci_ds_v2.0_2001_05_1.pdf?folderId=db3a304412b407950112b408e8c90004&fileId=db3a304412b407950112b41e161331d0; ComponentLink3Description: Package Specification; ComponentLink3URL: http://www.infineon.com/dgdl/c164ci_ds_v2.0_2001_05_1.pdf?folderId=db3a304412b407950112b408e8c90004&fileId=db3a304412b407950112b41e161331d0&sId=db3a30433d956bc3013d9b13f66314ac
footprint INF-P-MQFP-80-7_N (QFP, 80-Leads, Body 14x14mm, Pitch 0.65mm, IPC Medium Density)
footprint INF-P-MQFP-80-7_L (QFP, 80-Leads, Body 14x14mm, Pitch 0.65mm, IPC High Density)
footprint INF-P-MQFP-80-7_M (QFP, 80-Leads, Body 14x14mm, Pitch 0.65mm, IPC Low Density)
part A pins: 2 P5.4/AN4/T2EUD (in), 3 P5.5/AN5/T4EUD (in), 4 P5.6/AN6/T2IN (in), 5 P5.7/AN7/T4IN (in), 8 P3.4/T3EUD (io), 9 P3.6/T3IN (io), 10 P3.8/MRST (io), 11 P3.9/MTSR (io), 12 P3.10/TXD0 (io), 13 P3.11/RXD0 (io), 14 P3.12/~{BHE}/~{WRH} (io), 15 P3.13/SCLK (io), 16 P3.15/CLKOUT/FOUT (io), 17 P4.0/A16/~{CS3} (io), 18 P4.1/A17/~{CS2} (io), 19 P4.2/A18/~{CS1} (io), 22 P4.3/A19/~{CS0} (io), 23 P4.5/A20 (io), 24 P4.6/A21 (io), 25 ~{RD} (out) "External Memory Read Strobe. R\D\ is activated for every external instruction or data read access.", 26 ~{WR}/~{WRL} (out) "External Memory Write Strobe. In W\R\-mode this pin is activated for every external data write access. In W\R\L\-mode this pin is activated for low byte data write accesses on a 16-bit bus, and for every data write access on (See Datasheet)", 27 ALE (out) "Address Latch Enable Output. Can be used for latching the address into external memory or an address latch in the multiplexed bus modes.", 28 VPP/~{EA} (in) "External Access Enable pin.A low level at this pin during and after Reset forces the C164CI to latch the configuration from PORT0 and pin R\D\, and to begin instruction execution out of external memory.A high level forces (See Datasheet)", 29 P0L.0/AD0 (io), 30 P0L.1/AD1 (io), 31 P0L.2/AD2 (io), 32 P0L.3/AD3 (io), 33 P0L.4/AD4 (io), 34 P0L.5/AD5 (io), 35 P0L.6/AD6 (io), 36 P0L.7/AD7 (io), 37 P0H.0/AD8 (io), 38 P0H.1/AD9 (io), 39 P0H.2/AD10 (io), 42 P0H.3/AD11 (io), 43 P0H.4/AD12 (io), 44 P0H.5/AD13 (io), 45 P0H.6/AD14 (io), 46 P0H.7/AD15 (io), 47 P1L.0/A0/CC60 (io), 48 P1L.1/A1/COUT60 (io), 49 P1L.2/A2/CC61 (io), 50 P1L.3/A3/COUT61 (io), 51 P1L.4/A4/CC62 (io), 52 P1L.5/A5/COUT62 (io), 54 XTAL2 "Output of the oscillator amplifier circuit.", 55 XTAL1 "Input to the oscillator amplifier and input to the internal clock generator", 57 P1L.6/A6/COUT63 (io), 58 P1L.7/A7/~{CTRAP} (io), 59 P1H.0/A8/EX0IN (io), 62 P1H.1/A9/EX1IN (io), 63 P1H.2/A10/EX2IN (io), 64 P1H.3/A11/EXIN/T7IN (io), 65 P1H.4/A12/CC24IO (io), 66 P1H.5/A13/CC25IO (io), 67 P1H.6/A14/CC26IO (io), 68 P1H.7/A15/CC27IO (io), 69 ~{RSTIN} (io) "Reset Input with Schmitt-Trigger characteristics. A low level at this pin while the oscillator is running resets the C164CI. An internal pullup resistor permits power-on reset using only a capacitor connected to VSS.", 70 ~{RSTOUT} (out) "Internal Reset Indication Output. This pin is set to a low level when the part is executing either a hardware-, a software- or a watchdog timer reset. R\S\T\O\U\T\ remains low until the EINIT (end of initialization) (See Datasheet)", 71 ~{NMI} (in) "Non-Maskable Interrupt Input. A high to low transition at this pin causes the CPU to vector to the NMI trap routine. When the PWRDN (power down) instruction is executed, the N\M\I\ pin must be low in order to force the (See Datasheet)", 72 P8.0/CC16IO (io), 73 P8.1/CC17IO (io), 74 P8.2/CC18IO (io), 75 P8.3/CC19IO (io), 76 P5.0/AN0 (in), 77 P5.1/AN1 (in), 78 P5.2/AN2 (in), 79 P5.3/AN3 (in)
part B pins: 1 VAREF (power) "Reference voltage for the A/D converter.", 6 VSS (power) "Digital Ground.", 7 VDD (power) "Digital Supply Voltage: +5 V during normal operation and idle mode. =2.5 V during power down mode.", 20 VSS (power) "Digital Ground.", 21 VDD (power) "Digital Supply Voltage: +5 V during normal operation and idle mode. =2.5 V during power down mode.", 40 VDD (power) "Digital Supply Voltage: +5 V during normal operation and idle mode. =2.5 V during power down mode.", 41 VSS (power) "Digital Ground.", 53 VDD (power) "Digital Supply Voltage: +5 V during normal operation and idle mode. =2.5 V during power down mode.", 56 VSS (power) "Digital Ground.", 60 VSS (power) "Digital Ground.", 61 VDD (power) "Digital Supply Voltage: +5 V during normal operation and idle mode. =2.5 V during power down mode.", 80 VAGND (power) "Reference ground for the A/D converter."

## SAB-C165-L25F HA
designator U?
25 MHz C166 MCU without Program Memory, 2 KByte SRAM, 5V, 0 to 70 degC, PG-TQFP-100, Tray, Green; Manufacturer: Infineon; PartNumber: SAB-C165-L25F HA; A / D input lines (incl. FADC): 0; Digital I/O Lines: 77; DSP functionality (e.g MDU/MAC): TRUE; Instruction width [bits]: 16; Max Clock Frequency: 25 MHz; Oscillator Watchdog: FALSE; Power Modes: 3; Serial I/O Interfaces: 2; SRAM (incl. Cache): 2 KByte; Timer / Counter: 5; Type of Memory: ROM less; Type of Serial I/O Interfaces: ASC(1), SSC(1); DatasheetVersion: Rev. 2.0; PackageVersion: V2.0, 12/2000; PackageReference: P-TQFP-100-1; PackageDescription: 100-Pin Plastic Thin Metric Quad Flat Package, Body 14 x 14 mm, Pitch 0.5 mm; Supplier 1: Mouser; Supplier Part Number 1: 726-SABC165L25FHA; Supplier 2: Newark; Supplier Part Number 2: 47W3682; Supplier 3: Farnell; Supplier Part Number 3: 2212030; Supplier 4: Digi-Key; Supplier Part Number 4: SAB-C165-L25F HA-ND; CAN Nodes: 0; DMA Channels: 0; External Bus interface: TRUE; Green: TRUE; Halogen-free: FALSE; I/O Operation Voltages: 5V; Number of ADC Modules: 0; Packing: Tray; Real Time Clock (RTC): FALSE; Timed I/O Pins (PWM-Ch,CAPCOM): 0; Watchdog Timer: TRUE; Mounting Technology: Surface Mount; ComponentLink1Description: Manufacturer URL; ComponentLink1URL: http://www.infineon.com/; ComponentLink2Description: Datasheet; ComponentLink2URL: http://www.infineon.com/dgdl/c165_ds_v20_2000_12.pdf?folderId=db3a304412b407950112b43a49166fd6&fileId=db3a304412b407950112b43a49a66fd7; ComponentLink3Description: Package Specification; ComponentLink3URL: http://www.google.com/url?q=http://www.infineon.com/dgdl/c165_ds_v20_2000_12_1.pdf?folderId%3Ddb3a304412b407950112b408e8c90004%26fileId%3Ddb3a304412b407950112b43a4ef16fe7&sa=D&usg=ALhdy28l__9bJHCFc89ioLI6B1XModLc3w
footprint INF-P-TQFP-100-1_N (QFP, 100-Leads, Body 14x14mm, Pitch 0.5mm, IPC Medium Density)
footprint INF-P-TQFP-100-1_L (QFP, 100-Leads, Body 14x14mm, Pitch 0.5mm, IPC High Density)
footprint INF-P-TQFP-100-1_M (QFP, 100-Leads, Body 14x14mm, Pitch 0.5mm, IPC Low Density)
part A pins: 1 P5.13/T5IN (in), 2 P5.14/T4EUD (in), 3 P5.15/T2EUD (in), 8 P3.0 (io) "15-bit bidirectional I/O port. It is bit-wise programmable for input or output via direction bits.For a pin configured as input, the output driver is put into high-impedance state. Port 3 outputs can be configured as (See Datasheet)", 9 P3.1/T6OUT (io), 10 P3.2/CAPIN (io), 11 P3.3/T3OUT (io), 12 P3.4/T3EUD (io), 13 P3.5/T4IN (io), 14 P3.6/T3IN (io), 15 P3.7/T2IN (io), 16 P3.8/MRST (io), 17 P3.9/MTSR (io), 18 P3.10/TXD0 (io), 19 P3.11/RXD0 (io), 20 P3.12/~{BHE}/~{WRH} (io), 21 P3.13/SCLK (io), 22 P3.15/CLKOUT (io), 23 P4.0/A16 (io), 24 P4.1/A17 (io), 25 P4.2/A18 (io), 26 P4.3/A19 (io), 29 P4.4/A20 (io), 30 P4.5/A21 (io), 31 P4.6/A22 (io), 32 P4.7/A23 (io), 41 P0L.0/AD0 (io), 42 P0L.1/AD1 (io), 43 P0L.2/AD2 (io), 44 P0L.3/AD3 (io), 45 P0L.4/AD4 (io), 46 P0L.5/AD5 (io), 47 P0L.6/AD6 (io), 48 P0L.7/AD7 (io), 51 P0H.0/AD8 (io), 52 P0H.1/AD9 (io), 53 P0H.2/AD10 (io), 54 P0H.3/AD11 (io), 55 P0H.4/AD12 (io), 56 P0H.5/AD13 (io), 57 P0H.6/AD14 (io), 58 P0H.7/AD15 (io), 59 P1L.0/A0 (io), 60 P1L.1/A1 (io), 61 P1L.2/A2 (io), 62 P1L.3/A3 (io), 63 P1L.4/A4 (io), 64 P1L.5/A5 (io), 65 P1L.6/A6 (io), 66 P1L.7/A7 (io), 67 P1H.0/A8 (io), 68 P1H.1/A9 (io), 71 P1H.2/A10 (io), 72 P1H.3/A11 (io), 73 P1H.4/A12 (io), 74 P1H.5/A13 (io), 75 P1H.6/A14 (io), 76 P1H.7/A15 (io), 82 P6.0/~{CS0} (io), 83 P6.1/~{CS1} (io), 84 P6.2/~{CS2} (io), 85 P6.3/~{CS3} (io), 86 P6.4/~{CS4} (io), 87 P6.5/~{HOLD} (io), 88 P6.6/~{HLDA} (io), 89 P6.7/~{BREQ} (io), 90 P2.8/EX0IN (io), 91 P2.9/EX1IN (io), 92 P2.10/EX2IN (io), 93 P2.11/EX3IN (io), 94 P2.12/EX4IN (io), 95 P2.13/EX5IN (io), 96 P2.14/EX6IN (io), 97 P2.15/EX7IN (io), 98 P5.10/T6EUD (in), 99 P5.11/T5EUD (in), 100 P5.12/T6IN (in)
part B pins: 5 XTAL1 "Input to the oscillator amplifier and input to the internal clock generator", 6 XTAL2 "Output of the oscillator amplifier circuit.", 33 ~{RD} (out) "External Memory Read Strobe. R\D\ is activated for every external instruction or data read access.", 34 ~{WR}/~{WRL} (out) "External MemoryWrite Strobe. In W\R\-mode this pin is activated for every external data Write access. In W\R\L\-mode this pin is activated for low byte data WRCFG accesses on a 16-bit bus, and for every data write access on (See Datasheet)", 35 ~{READY} (in) "Ready Input. When the Ready function is enabled, a high level at this pin during an external memory access will force the insertion of memory cycle waitstates until the pin returns to a low level. An internal pullup device (See Datasheet)", 36 ALE (out) "Address Latch Enable Output. Can be used for latching the address into external memory or an address latch in the multiplexed bus modes.", 37 ~{EA} (in) "External Access Enable pin. A low level at this pin during and after Reset forces the C165 to begin instruction execution out of external memory. A high level forces execution out of the internal program memory. (See Datasheet)", 40 NC "This pin is not connected in the C165.No connection to the PCB is required", 79 ~{RSTIN} (io) "Reset Input with Schmitt-Trigger characteristics. A low level at this pin while the oscillator is running resets the C165. An internal pullup resistor permits power-on reset using only a capacitor connected to VSS. A spike (See Datasheet)", 80 ~{RSTOUT} (out) "Internal Reset Indication Output. This pin is set to a low level when the part is executing either a hardware-, a software- or a watchdog timer reset. R\S\T\O\U\T\ remains low until the EINIT (end of initialization) (See Datasheet)", 81 ~{NMI} (in) "Non-Maskable Interrupt Input. A high to low transition at this pin causes the CPU to vector to the NMI trap routine. When the PWRDN (power down) instruction is executed, the N\M\I\ pin must be low in order to force the C165 (See Datasheet)"
part C pins: 4 VSS (power) "Digital Ground.", 7 VDD (power) "Digital Supply Voltage:+ 5 V or + 3 V during normal operation and idle mode.>= 2.5 V during power down mode.", 27 VSS (power) "Digital Ground.", 28 VDD (power) "Digital Supply Voltage:+ 5 V or + 3 V during normal operation and idle mode.>= 2.5 V during power down mode.", 38 VDD (power) "Digital Supply Voltage:+ 5 V or + 3 V during normal operation and idle mode.>= 2.5 V during power down mode.", 39 VSS (power) "Digital Ground.", 49 VDD (power) "Digital Supply Voltage:+ 5 V or + 3 V during normal operation and idle mode.>= 2.5 V during power down mode.", 50 VSS (power) "Digital Ground.", 69 VDD (power) "Digital Supply Voltage:+ 5 V or + 3 V during normal operation and idle mode.>= 2.5 V during power down mode.", 70 VSS (power) "Digital Ground.", 77 VSS (power) "Digital Ground.", 78 VDD (power) "Digital Supply Voltage:+ 5 V or + 3 V during normal operation and idle mode.>= 2.5 V during power down mode."

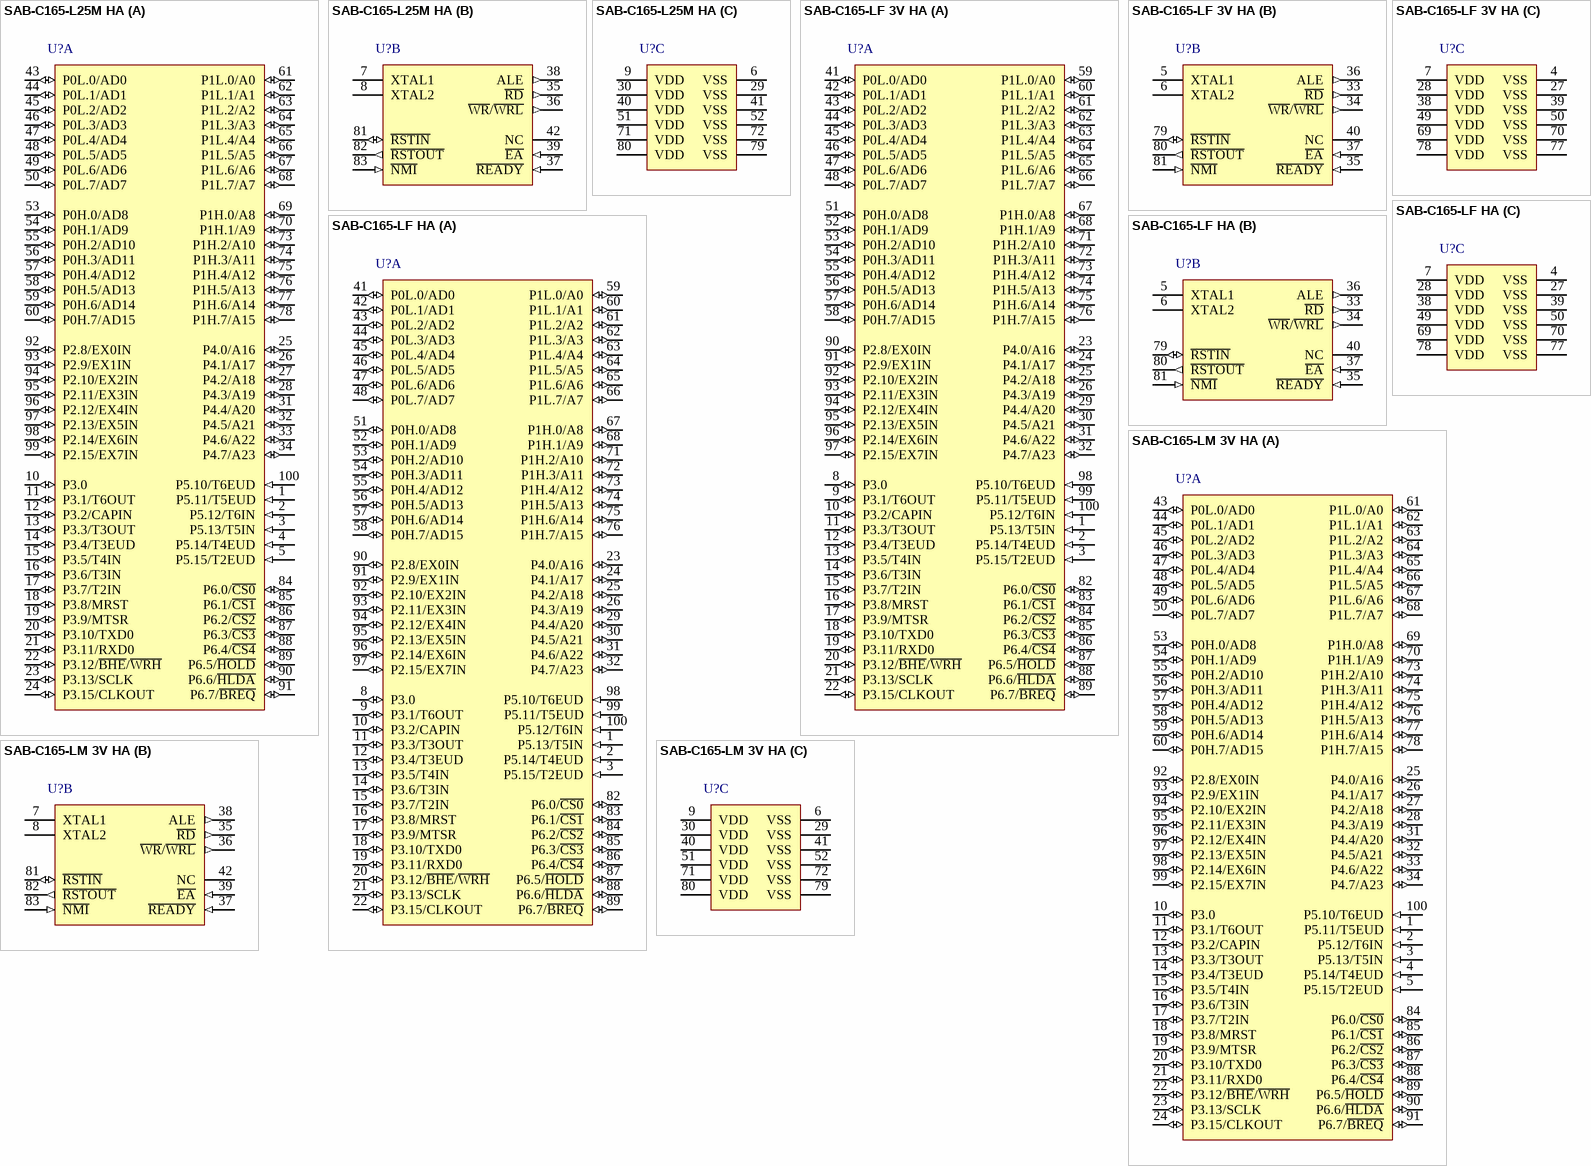
[diagram p4: symbols SAB-C165-L25M HA to SAB-C165-LM 3V HA]